# EAGLE library part MAX4570 (library MAX4570)
Maxims MAX4570 clickless audio routing switch.
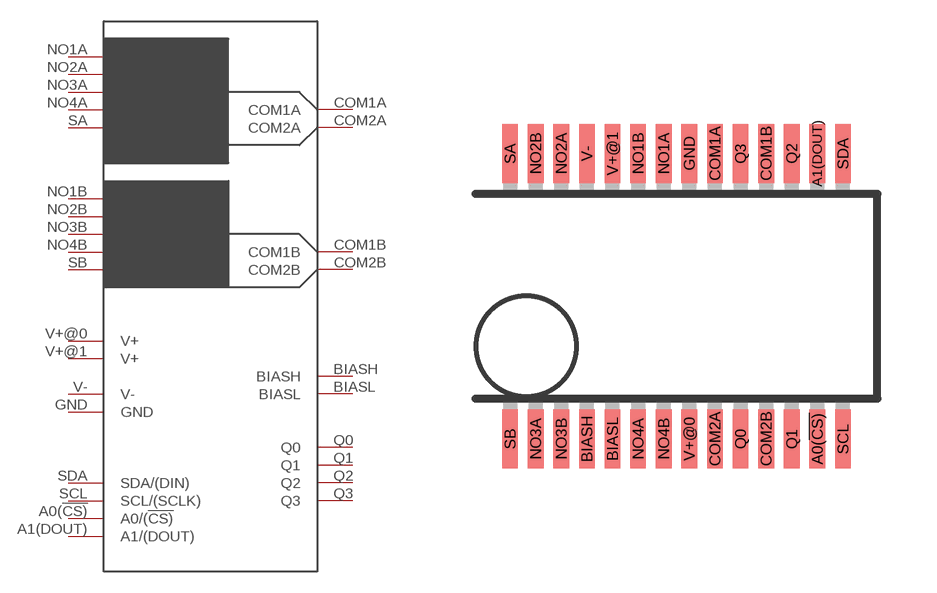
[diagram p0: symbol with the pads of SSOP28; footprint SSOP28]

Designator prefix -

## MAX4570  [SSOP28]
A0(!CS)  A0/(!CS)
A1(DOUT)  A1/(DOUT)
BIASH  BIASH
BIASL  BIASL
COM1A  COM1A
COM1B  COM1B
COM2A  COM2A
COM2B  COM2B
GND  GND
NO1A  NO1A
NO1B  NO1B
NO2A  NO2A
NO2B  NO2B
NO3A  NO3A
NO3B  NO3B
NO4A  NO4A
NO4B  NO4B
Q0  Q0
Q1  Q1
Q2  Q2
Q3  Q3
SA  SA
SB  SB
SCL  SCL/(SCLK)
SDA  SDA/(DIN)
V+@0  V+
V+@1  V+
V-  V-

## Footprint SSOP28 (pad centres in mm)
Shrink Small Outline Package package type SS
smd 0.4 x 1.5: A0(!CS) 3.575,-3.625; A1(DOUT) 3.575,3.625; BIASH -2.275,-3.625; BIASL -1.625,-3.625; COM1A 0.975,3.625; COM1B 2.275,3.625; COM2A 0.975,-3.625; COM2B 2.275,-3.625; GND 0.325,3.625; NO1A -0.325,3.625; NO1B -0.975,3.625; NO2A -2.925,3.625; NO2B -3.575,3.625; NO3A -3.575,-3.625; NO3B -2.925,-3.625; NO4A -0.975,-3.625; NO4B -0.325,-3.625; Q0 1.625,-3.625; Q1 2.925,-3.625; Q2 2.925,3.625; Q3 1.625,3.625; SA -4.225,3.625; SB -4.225,-3.625; SCL 4.225,-3.625; SDA 4.225,3.625; V+@0 0.325,-3.625; V+@1 -1.625,3.625; V- -2.275,3.625